# Altium schematic symbol library NXP Semiconductors Cortex-M0.SchLib: 92 symbols (part 5 of 5)
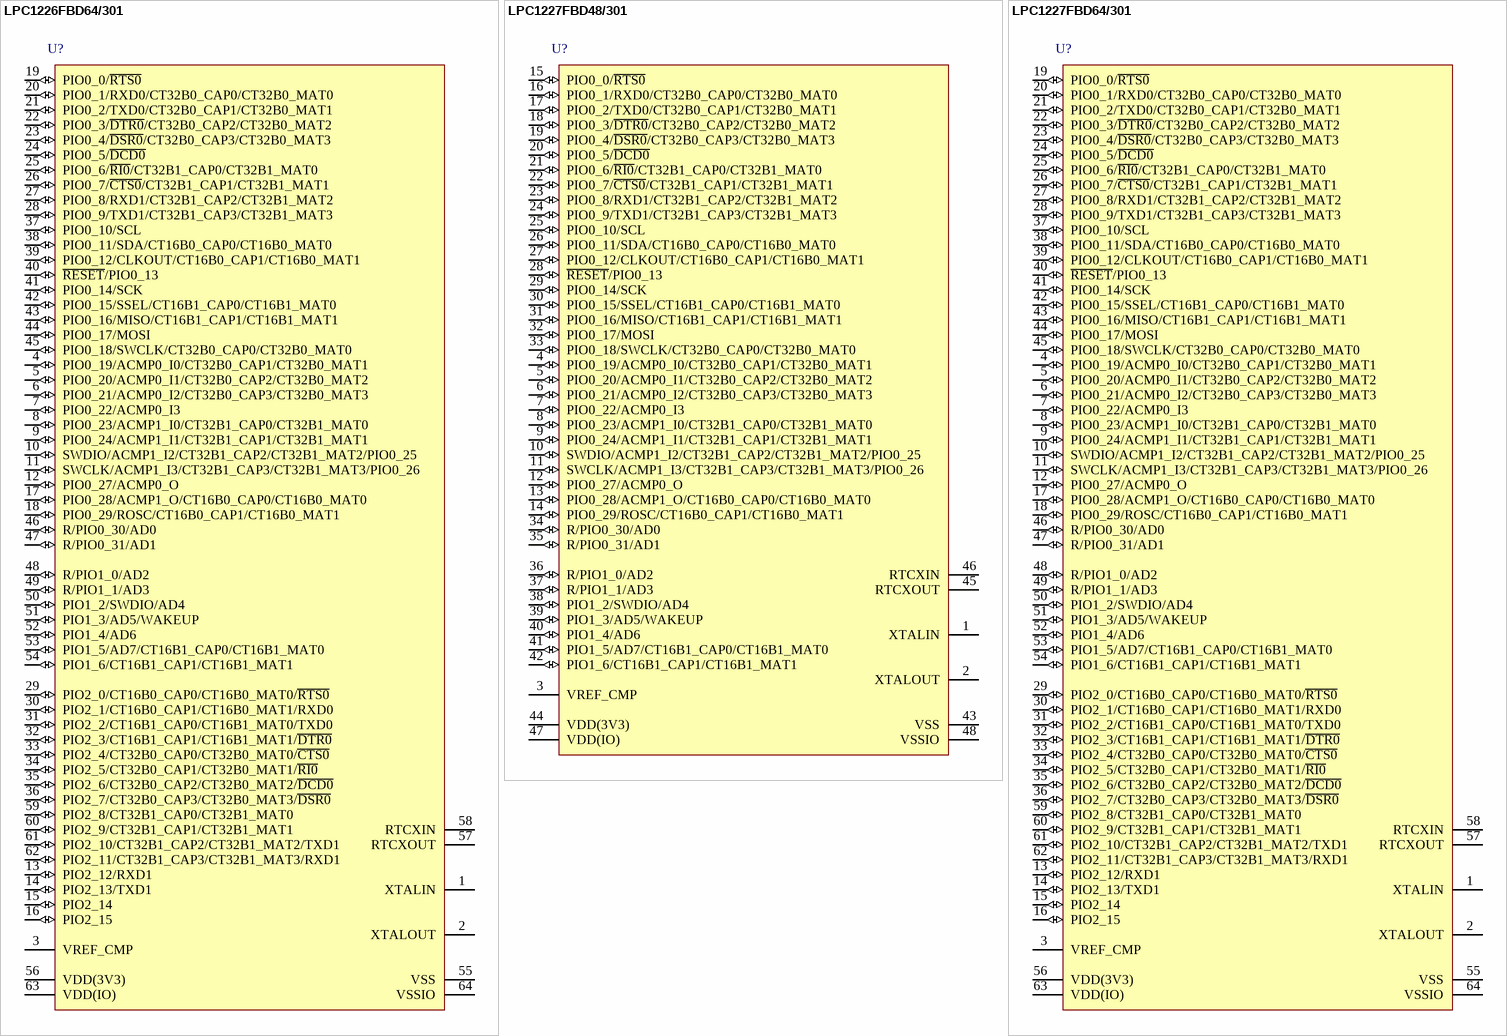
[diagram p20: symbols LPC1226FBD64/301 to LPC1227FBD64/301]

## LPC1226FBD64/301
designator U?
32-bit ARM Cortex-M0 MCU, 96 kB Flash, 8 kB SRAM, RTC, Comparator, 10-Bit ADC, CRC, DMA, 64-Pin LQFP; PartNumber: LPC1226FBD64/301; fmax: 45 MHz; SRAM: 8 kB; Flash: 96 kB; GPIOs: 55; UART: 2; I2C: 1; PLL: Y; Timers: 4; ADC channels: 8; VDD (min): 3 V; VDD (typ): 3.3 V; VDD (max): 3.6 V; Code_IEC: 136E10; DatasheetVersion: Rev. 2, Aug-2011; PackageVersion: Feb-2003; PackageReference: SOT314-2; PackageDescription: LQFP64: Plastic Low Profile Quad Flat Package; 64 Leads; Body 10 x 10 x 1.4 mm; SPI: 1; SSP: 1; Code_JEDEC: MS-026; ComponentLink1Description: Manufacturer URL; ComponentLink1URL: http://www.nxp.com/; ComponentLink2Description: Datasheet; ComponentLink2URL: http://www.nxp.com/documents/data_sheet/LPC122X.pdf
footprint SOT314-2_V (Thin QFP, 64-Leads, Body 10x10mm, Pitch 0.5mm, NXP Recommended)
pins: 1 XTALIN, 2 XTALOUT, 3 VREF_CMP (power), 4 PIO0_19/ACMP0_I0/CT32B0_CAP1/CT32B0_MAT1 (io), 5 PIO0_20/ACMP0_I1/CT32B0_CAP2/CT32B0_MAT2 (io), 6 PIO0_21/ACMP0_I2/CT32B0_CAP3/CT32B0_MAT3 (io), 7 PIO0_22/ACMP0_I3 (io), 8 PIO0_23/ACMP1_I0/CT32B1_CAP0/CT32B1_MAT0 (io), 9 PIO0_24/ACMP1_I1/CT32B1_CAP1/CT32B1_MAT1 (io), 10 SWDIO/ACMP1_I2/CT32B1_CAP2/CT32B1_MAT2/PIO0_25 (io), 11 SWCLK/ACMP1_I3/CT32B1_CAP3/CT32B1_MAT3/PIO0_26 (io), 12 PIO0_27/ACMP0_O (io), 13 PIO2_12/RXD1 (io), 14 PIO2_13/TXD1 (io), 15 PIO2_14 (io), 16 PIO2_15 (io), 17 PIO0_28/ACMP1_O/CT16B0_CAP0/CT16B0_MAT0 (io), 18 PIO0_29/ROSC/CT16B0_CAP1/CT16B0_MAT1 (io), 19 PIO0_0/~{RTS0} (io), 20 PIO0_1/RXD0/CT32B0_CAP0/CT32B0_MAT0 (io), 21 PIO0_2/TXD0/CT32B0_CAP1/CT32B0_MAT1 (io), 22 PIO0_3/~{DTR0}/CT32B0_CAP2/CT32B0_MAT2 (io), 23 PIO0_4/~{DSR0}/CT32B0_CAP3/CT32B0_MAT3 (io), 24 PIO0_5/~{DCD0} (io), 25 PIO0_6/~{RI0}/CT32B1_CAP0/CT32B1_MAT0 (io), 26 PIO0_7/~{CTS0}/CT32B1_CAP1/CT32B1_MAT1 (io), 27 PIO0_8/RXD1/CT32B1_CAP2/CT32B1_MAT2 (io), 28 PIO0_9/TXD1/CT32B1_CAP3/CT32B1_MAT3 (io), 29 PIO2_0/CT16B0_CAP0/CT16B0_MAT0/~{RTS0} (io), 30 PIO2_1/CT16B0_CAP1/CT16B0_MAT1/RXD0 (io), 31 PIO2_2/CT16B1_CAP0/CT16B1_MAT0/TXD0 (io), 32 PIO2_3/CT16B1_CAP1/CT16B1_MAT1/~{DTR0} (io), 33 PIO2_4/CT32B0_CAP0/CT32B0_MAT0/~{CTS0} (io), 34 PIO2_5/CT32B0_CAP1/CT32B0_MAT1/~{RI0} (io), 35 PIO2_6/CT32B0_CAP2/CT32B0_MAT2/~{DCD0} (io), 36 PIO2_7/CT32B0_CAP3/CT32B0_MAT3/~{DSR0} (io), 37 PIO0_10/SCL (io), 38 PIO0_11/SDA/CT16B0_CAP0/CT16B0_MAT0 (io), 39 PIO0_12/CLKOUT/CT16B0_CAP1/CT16B0_MAT1 (io), 40 ~{RESET}/PIO0_13 (io), 41 PIO0_14/SCK (io), 42 PIO0_15/SSEL/CT16B1_CAP0/CT16B1_MAT0 (io), 43 PIO0_16/MISO/CT16B1_CAP1/CT16B1_MAT1 (io), 44 PIO0_17/MOSI (io), 45 PIO0_18/SWCLK/CT32B0_CAP0/CT32B0_MAT0 (io), 46 R/PIO0_30/AD0 (io), 47 R/PIO0_31/AD1 (io), 48 R/PIO1_0/AD2 (io), 49 R/PIO1_1/AD3 (io), 50 PIO1_2/SWDIO/AD4 (io), 51 PIO1_3/AD5/WAKEUP (io), 52 PIO1_4/AD6 (io), 53 PIO1_5/AD7/CT16B1_CAP0/CT16B1_MAT0 (io), 54 PIO1_6/CT16B1_CAP1/CT16B1_MAT1 (io), 55 VSS (power), 56 VDD(3V3) (power), 57 RTCXOUT, 58 RTCXIN, 59 PIO2_8/CT32B1_CAP0/CT32B1_MAT0 (io), 60 PIO2_9/CT32B1_CAP1/CT32B1_MAT1 (io), 61 PIO2_10/CT32B1_CAP2/CT32B1_MAT2/TXD1 (io), 62 PIO2_11/CT32B1_CAP3/CT32B1_MAT3/RXD1 (io), 63 VDD(IO) (power), 64 VSSIO (power)

## LPC1227FBD48/301
designator U?
32-bit ARM Cortex-M0 MCU, 128 kB Flash, 8 kB SRAM, RTC, Comparator, 10-Bit ADC, CRC, DMA, 48-Pin LQFP; PartNumber: LPC1227FBD48/301; fmax: 45 MHz; SRAM: 8 kB; Flash: 128 kB; GPIOs: 39; UART: 2; I2C: 1; PLL: Y; Timers: 4; ADC channels: 8; VDD (min): 3 V; VDD (typ): 3.3 V; VDD (max): 3.6 V; Code_IEC: 136E05; DatasheetVersion: Rev. 2, Aug-2011; PackageVersion: Feb-2003; PackageReference: SOT313-2; PackageDescription: LQFP48: Plastic Low Profile Quad Flat Package; 48 Leads; Body 7 x 7 x 1.4 mm; SPI: 1; SSP: 1; Code_JEDEC: MS-026; ComponentLink1Description: Manufacturer URL; ComponentLink1URL: http://www.nxp.com/; ComponentLink2Description: Datasheet; ComponentLink2URL: http://www.nxp.com/documents/data_sheet/LPC122X.pdf
footprint SOT313-2_V (Thin QFP, 48-Leads, Body 7x7mm, Pitch 0.5mm, NXP Recommended)
pins: 1 XTALIN, 2 XTALOUT, 3 VREF_CMP (power), 4 PIO0_19/ACMP0_I0/CT32B0_CAP1/CT32B0_MAT1 (io), 5 PIO0_20/ACMP0_I1/CT32B0_CAP2/CT32B0_MAT2 (io), 6 PIO0_21/ACMP0_I2/CT32B0_CAP3/CT32B0_MAT3 (io), 7 PIO0_22/ACMP0_I3 (io), 8 PIO0_23/ACMP1_I0/CT32B1_CAP0/CT32B1_MAT0 (io), 9 PIO0_24/ACMP1_I1/CT32B1_CAP1/CT32B1_MAT1 (io), 10 SWDIO/ACMP1_I2/CT32B1_CAP2/CT32B1_MAT2/PIO0_25 (io), 11 SWCLK/ACMP1_I3/CT32B1_CAP3/CT32B1_MAT3/PIO0_26 (io), 12 PIO0_27/ACMP0_O (io), 13 PIO0_28/ACMP1_O/CT16B0_CAP0/CT16B0_MAT0 (io), 14 PIO0_29/ROSC/CT16B0_CAP1/CT16B0_MAT1 (io), 15 PIO0_0/~{RTS0} (io), 16 PIO0_1/RXD0/CT32B0_CAP0/CT32B0_MAT0 (io), 17 PIO0_2/TXD0/CT32B0_CAP1/CT32B0_MAT1 (io), 18 PIO0_3/~{DTR0}/CT32B0_CAP2/CT32B0_MAT2 (io), 19 PIO0_4/~{DSR0}/CT32B0_CAP3/CT32B0_MAT3 (io), 20 PIO0_5/~{DCD0} (io), 21 PIO0_6/~{RI0}/CT32B1_CAP0/CT32B1_MAT0 (io), 22 PIO0_7/~{CTS0}/CT32B1_CAP1/CT32B1_MAT1 (io), 23 PIO0_8/RXD1/CT32B1_CAP2/CT32B1_MAT2 (io), 24 PIO0_9/TXD1/CT32B1_CAP3/CT32B1_MAT3 (io), 25 PIO0_10/SCL (io), 26 PIO0_11/SDA/CT16B0_CAP0/CT16B0_MAT0 (io), 27 PIO0_12/CLKOUT/CT16B0_CAP1/CT16B0_MAT1 (io), 28 ~{RESET}/PIO0_13 (io), 29 PIO0_14/SCK (io), 30 PIO0_15/SSEL/CT16B1_CAP0/CT16B1_MAT0 (io), 31 PIO0_16/MISO/CT16B1_CAP1/CT16B1_MAT1 (io), 32 PIO0_17/MOSI (io), 33 PIO0_18/SWCLK/CT32B0_CAP0/CT32B0_MAT0 (io), 34 R/PIO0_30/AD0 (io), 35 R/PIO0_31/AD1 (io), 36 R/PIO1_0/AD2 (io), 37 R/PIO1_1/AD3 (io), 38 PIO1_2/SWDIO/AD4 (io), 39 PIO1_3/AD5/WAKEUP (io), 40 PIO1_4/AD6 (io), 41 PIO1_5/AD7/CT16B1_CAP0/CT16B1_MAT0 (io), 42 PIO1_6/CT16B1_CAP1/CT16B1_MAT1 (io), 43 VSS (power), 44 VDD(3V3) (power), 45 RTCXOUT, 46 RTCXIN, 47 VDD(IO) (power), 48 VSSIO (power)

## LPC1227FBD64/301
designator U?
32-bit ARM Cortex-M0 MCU, 128 kB Flash, 8 kB SRAM, RTC, Comparator, 10-Bit ADC, CRC, DMA, 64-Pin LQFP; PartNumber: LPC1227FBD64/301; fmax: 45 MHz; SRAM: 8 kB; Flash: 128 kB; GPIOs: 55; UART: 2; I2C: 1; PLL: Y; Timers: 4; ADC channels: 8; VDD (min): 3 V; VDD (typ): 3.3 V; VDD (max): 3.6 V; Code_IEC: 136E10; DatasheetVersion: Rev. 2, Aug-2011; PackageVersion: Feb-2003; PackageReference: SOT314-2; PackageDescription: LQFP64: Plastic Low Profile Quad Flat Package; 64 Leads; Body 10 x 10 x 1.4 mm; SPI: 1; SSP: 1; Code_JEDEC: MS-026; ComponentLink1Description: Manufacturer URL; ComponentLink1URL: http://www.nxp.com/; ComponentLink2Description: Datasheet; ComponentLink2URL: http://www.nxp.com/documents/data_sheet/LPC122X.pdf
footprint SOT314-2_V (Thin QFP, 64-Leads, Body 10x10mm, Pitch 0.5mm, NXP Recommended)
pins: 1 XTALIN, 2 XTALOUT, 3 VREF_CMP (power), 4 PIO0_19/ACMP0_I0/CT32B0_CAP1/CT32B0_MAT1 (io), 5 PIO0_20/ACMP0_I1/CT32B0_CAP2/CT32B0_MAT2 (io), 6 PIO0_21/ACMP0_I2/CT32B0_CAP3/CT32B0_MAT3 (io), 7 PIO0_22/ACMP0_I3 (io), 8 PIO0_23/ACMP1_I0/CT32B1_CAP0/CT32B1_MAT0 (io), 9 PIO0_24/ACMP1_I1/CT32B1_CAP1/CT32B1_MAT1 (io), 10 SWDIO/ACMP1_I2/CT32B1_CAP2/CT32B1_MAT2/PIO0_25 (io), 11 SWCLK/ACMP1_I3/CT32B1_CAP3/CT32B1_MAT3/PIO0_26 (io), 12 PIO0_27/ACMP0_O (io), 13 PIO2_12/RXD1 (io), 14 PIO2_13/TXD1 (io), 15 PIO2_14 (io), 16 PIO2_15 (io), 17 PIO0_28/ACMP1_O/CT16B0_CAP0/CT16B0_MAT0 (io), 18 PIO0_29/ROSC/CT16B0_CAP1/CT16B0_MAT1 (io), 19 PIO0_0/~{RTS0} (io), 20 PIO0_1/RXD0/CT32B0_CAP0/CT32B0_MAT0 (io), 21 PIO0_2/TXD0/CT32B0_CAP1/CT32B0_MAT1 (io), 22 PIO0_3/~{DTR0}/CT32B0_CAP2/CT32B0_MAT2 (io), 23 PIO0_4/~{DSR0}/CT32B0_CAP3/CT32B0_MAT3 (io), 24 PIO0_5/~{DCD0} (io), 25 PIO0_6/~{RI0}/CT32B1_CAP0/CT32B1_MAT0 (io), 26 PIO0_7/~{CTS0}/CT32B1_CAP1/CT32B1_MAT1 (io), 27 PIO0_8/RXD1/CT32B1_CAP2/CT32B1_MAT2 (io), 28 PIO0_9/TXD1/CT32B1_CAP3/CT32B1_MAT3 (io), 29 PIO2_0/CT16B0_CAP0/CT16B0_MAT0/~{RTS0} (io), 30 PIO2_1/CT16B0_CAP1/CT16B0_MAT1/RXD0 (io), 31 PIO2_2/CT16B1_CAP0/CT16B1_MAT0/TXD0 (io), 32 PIO2_3/CT16B1_CAP1/CT16B1_MAT1/~{DTR0} (io), 33 PIO2_4/CT32B0_CAP0/CT32B0_MAT0/~{CTS0} (io), 34 PIO2_5/CT32B0_CAP1/CT32B0_MAT1/~{RI0} (io), 35 PIO2_6/CT32B0_CAP2/CT32B0_MAT2/~{DCD0} (io), 36 PIO2_7/CT32B0_CAP3/CT32B0_MAT3/~{DSR0} (io), 37 PIO0_10/SCL (io), 38 PIO0_11/SDA/CT16B0_CAP0/CT16B0_MAT0 (io), 39 PIO0_12/CLKOUT/CT16B0_CAP1/CT16B0_MAT1 (io), 40 ~{RESET}/PIO0_13 (io), 41 PIO0_14/SCK (io), 42 PIO0_15/SSEL/CT16B1_CAP0/CT16B1_MAT0 (io), 43 PIO0_16/MISO/CT16B1_CAP1/CT16B1_MAT1 (io), 44 PIO0_17/MOSI (io), 45 PIO0_18/SWCLK/CT32B0_CAP0/CT32B0_MAT0 (io), 46 R/PIO0_30/AD0 (io), 47 R/PIO0_31/AD1 (io), 48 R/PIO1_0/AD2 (io), 49 R/PIO1_1/AD3 (io), 50 PIO1_2/SWDIO/AD4 (io), 51 PIO1_3/AD5/WAKEUP (io), 52 PIO1_4/AD6 (io), 53 PIO1_5/AD7/CT16B1_CAP0/CT16B1_MAT0 (io), 54 PIO1_6/CT16B1_CAP1/CT16B1_MAT1 (io), 55 VSS (power), 56 VDD(3V3) (power), 57 RTCXOUT, 58 RTCXIN, 59 PIO2_8/CT32B1_CAP0/CT32B1_MAT0 (io), 60 PIO2_9/CT32B1_CAP1/CT32B1_MAT1 (io), 61 PIO2_10/CT32B1_CAP2/CT32B1_MAT2/TXD1 (io), 62 PIO2_11/CT32B1_CAP3/CT32B1_MAT3/RXD1 (io), 63 VDD(IO) (power), 64 VSSIO (power)